# Altium schematic symbol library LTC4357IMS8TRPBF.SchLib: 1 symbol
Pins are listed as number, name and electrical type; pins without a type are passive.

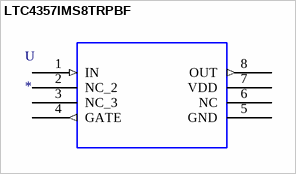
[diagram p0: symbol LTC4357IMS8TRPBF]

## LTC4357IMS8TRPBF
designator U
OR Controller N+1 ORing Controller N-Channel N:1 8-MSOP; MF: Analog Devices; MP: LTC4357IMS8#TRPBF; Value: *; Package: MSOP-8 Analog Devices; Price: None; Availability: Unavailable; SnapEDA_Link: https://www.snapeda.com/parts/LTC4357IMS8%23TRPBF/Analog%20Devices/view-part/4335178/?ref=snap
footprint MSOP-8_MS
pins: 1 IN (in), 2 NC_2, 3 NC_3, 4 GATE (out), 5 GND (power), 6 NC, 7 VDD (power), 8 OUT (out)